# Altium footprint library Header.PcbLib: 3 footprints
Each footprint in its own frame and in the unit in brackets; x right, y up, seen from the top. Pads: shape width x height; smd on the part's side, far side on the other; paste and mask are expansions set on the pad; w line width, h text height; cw(c..) or ccw(c..) is an arc to the next point about the centre after c.
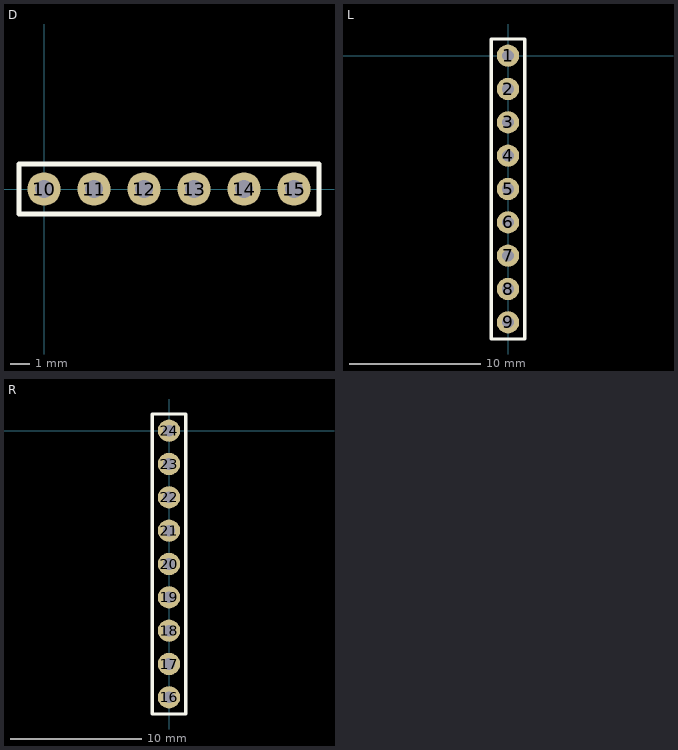
[diagram p0: the footprints below, top view; thin cyan lines are the x and y axes]

## D [mm]
pads (6):
  round 1.7 hole 0.9: 10(0,0) 11(2.54,0) 12(5.08,0) 13(7.62,0) 14(10.16,0) 15(12.7,0)
Top Overlay:
  lines w0.254: -1.27,-1.27 -1.27,1.27 13.97,1.27 13.97,-1.27 -1.27,-1.27

## L [mm]
pads (9):
  round 1.7 hole 0.9: 1(0,0) 2(0,-2.54) 3(0,-5.08) 4(0,-7.62) 5(0,-10.16) 6(0,-12.7) 7(0,-15.24) 8(0,-17.78) 9(0,-20.32)
Top Overlay:
  lines w0.254: -1.27,-21.59 1.27,-21.59 1.27,1.27 -1.27,1.27 -1.27,-21.59

## R [mm]
pads (9):
  round 1.7 hole 0.9: 16(0,-20.32) 17(0,-17.78) 18(0,-15.24) 19(0,-12.7) 20(0,-10.16) 21(0,-7.62) 22(0,-5.08) 23(0,-2.54) 24(0,0)
Top Overlay:
  lines w0.254: -1.27,-21.59 -1.27,1.27 1.27,1.27 1.27,-21.59 -1.27,-21.59